# Altium schematic symbol library Thermocoupler.SchLib: 2 symbols
Pins are listed as number, name and electrical type; pins without a type are passive.

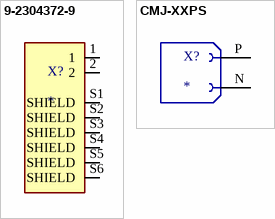
[diagram p0: symbols 9-2304372-9 to CMJ-XXPS]

## 9-2304372-9
designator X?
1-PORT MATENET HDR ASSY 90DEG, COD Z; MP: 9-2304372-9; MF: TE Connectivity; Package: None; Value: *; SnapEDA_Link: https://www.snapeda.com/parts/9-2304372-9/TE%20Connectivity/view-part/1783825/?ref=snap; Price: None; Availability: Unavailable
pins: 1, 2, S1 SHIELD, S2 SHIELD, S3 SHIELD, S4 SHIELD, S5 SHIELD, S6 SHIELD

## CMJ-XXPS
designator X?
Thermocouple Conn, K Type, Rcpt
pins: N NEG, P POS